# Altium footprint library MSOP-8_INV.PcbLib: 1 footprints
Each footprint in its own frame and in the unit in brackets; x right, y up, seen from the top. Pads: shape width x height; smd on the part's side, far side on the other; paste and mask are expansions set on the pad; w line width, h text height; cw(c..) or ccw(c..) is an arc to the next point about the centre after c.
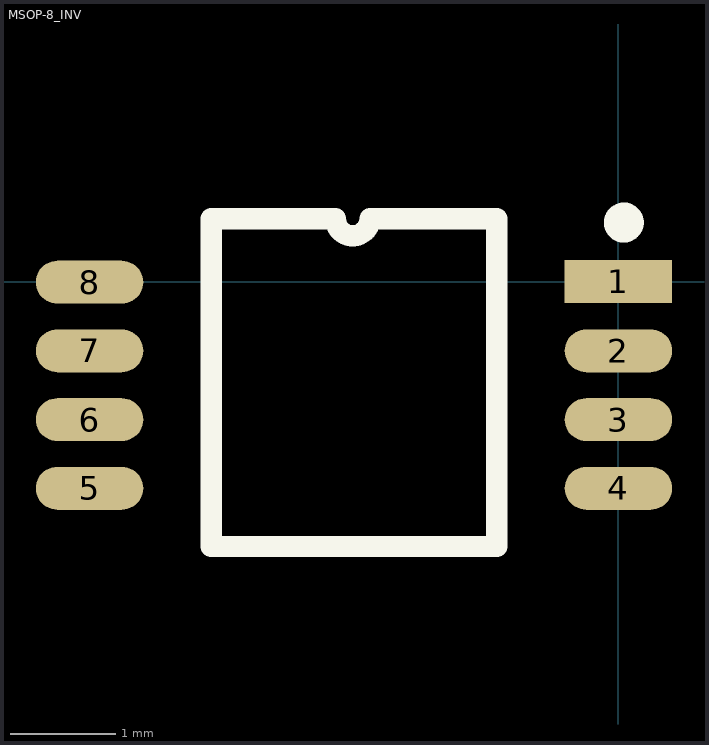
[diagram p0: the footprint, top view; thin cyan lines are the x and y axes]

## MSOP-8_INV [mil]
pads (8):
  rect 40x16 smd: 1(0,0)
  oval 40x16 smd: 2(0,-25.77) 3(0,-51.36) 4(0,-76.95) 5(-196.91,-76.95) 6(-196.91,-51.36) 7(-196.91,-25.77) 8(-196.91,-0.18)
Top Overlay:
  circle w10: c2,22 r2.44
  lines w7.87: -92.55,23.44 cw(c-98.95,23.44) -105.35,23.44 -151.61,23.44 -151.61,-98.6 -45.31,-98.6 -45.31,23.44 -92.06,23.44
3D body "MSOP-8.STEP": height 6.91, standoff -35.4, extent -197.29,-97.62 0.38,20.49